# EAGLE library part 74LVC245 (library pimoroni)
74LVC245 2kB 20MHz I2C/SPI/UART
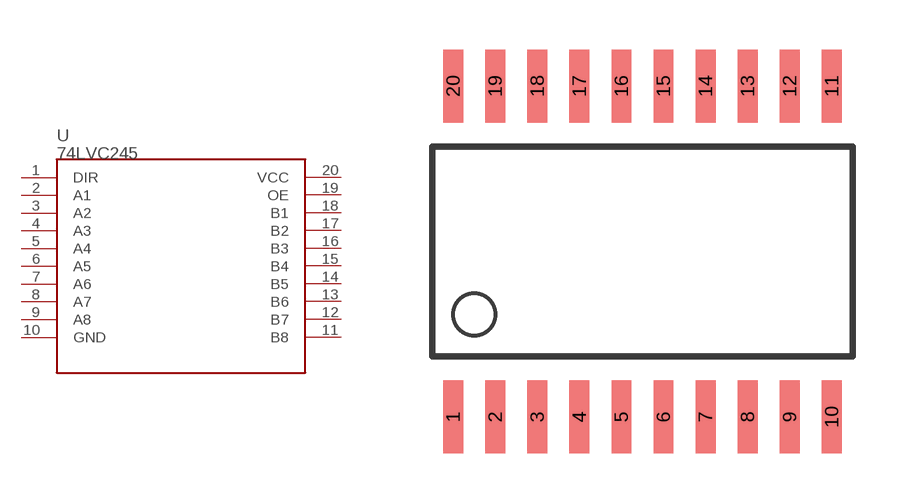
[diagram p3: symbol with the pads of SOP20W; footprint SOP20W]

Designator prefix U

## 74LVC245 (PROD_ID: IC-11305; VALUE: 74LVC245)  [SOP20W]
1  DIR
2  A1
3  A2
4  A3
5  A4
6  A5
7  A6
8  A7
9  A8
10  GND
11  B8
12  B7
13  B6
14  B5
15  B4
16  B3
17  B2
18  B1
19  OE
20  VCC

## Footprint SOP20W (pad centres in mm)
SMALL OUTLINE PACKAGE
smd 0.6 x 2.2: 1 -5.715,-5; 2 -4.445,-5; 3 -3.175,-5; 4 -1.905,-5; 5 -0.635,-5; 6 0.635,-5; 7 1.905,-5; 8 3.175,-5; 9 4.445,-5; 10 5.715,-5; 11 5.715,5; 12 4.445,5; 13 3.175,5; 14 1.905,5; 15 0.635,5; 16 -0.635,5; 17 -1.905,5; 18 -3.175,5; 19 -4.445,5; 20 -5.715,5